# EAGLE library part ARJ20A12Z (library Relay)
RELAY RF DPDT 300MA 12V Manufacturer's datasheet <https://www3.panasonic.biz/ac/e/control/relay/device-hi/rj/size_figure/index.jsp#ANCHOR2>
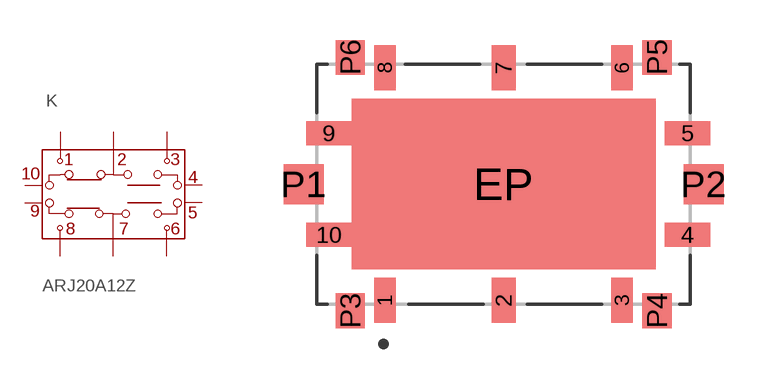
[diagram p5: symbol with the pads of ARJ20A12Z; footprint ARJ20A12Z]

Designator prefix K

## ARJ20A12Z (CREATED_BY: PCBLayout.com; DIGIKEY_PARTNO: 255-3399-1-ND; MAUFACTURER: Panasonic Electric Works; MPN: ARJ20A12Z)  [ARJ20A12Z]
1  1  pas
2  2  pas
3  3  pas
4  4  pas
5  5  pas
6  6  pas
7  7  pas
8  8  pas
9  9  pas
10  10  pas

## Footprint ARJ20A12Z (pad centres in mm)
smd 0.8 x 1.7: 1 -4.445,-4.36; 3 4.445,-4.36; 6 4.445,4.36; 8 -4.445,4.36
smd 0.9 x 1.7: 2 0,-4.36; 7 0,4.36
smd 1.7 x 0.9: 4 6.9,-1.905; 5 6.9,1.905; 9 -6.55,1.905; 10 -6.55,-1.905
smd 11.4 x 6.4: EP 0,0
smd 1.5 x 1.5: P1 -7.5,0; P2 7.5,0
smd 1.1 x 1.3: P3 -5.75,-4.75; P4 5.75,-4.75; P5 5.75,4.75; P6 -5.75,4.75